# Altium schematic symbol library PA2248.153NLT.SchLib: 1 symbol
Pins are listed as number, name and electrical type; pins without a type are passive.

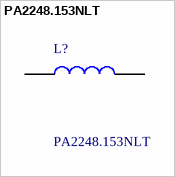
[diagram p0: symbol PA2248.153NLT]

## PA2248.153NLT
designator L?
FIXED IND 15UH 22A 7.5MOHM SMD; Manufacturer_Name: YAGEO; Geometry.Height: 13mm; Mouser Part Number: 673-PA2248.153NLT; Mouser Price/Stock: https://www.mouser.co.uk/ProductDetail/Pulse-Electronics/PA2248.153NLT?qs=vLWxofP3U2yRehsl8tescA%3D%3D; Manufacturer_Part_Number: PA2248.153NLT; Datasheet Link: https://www.mouser.de/datasheet/2/336/P865-1771766.pdf
footprint INDPM155165X1300N
pins: 1, 2